# Altium footprint library ZZCDevice.PcbLib: 4 footprints
Each footprint in its own frame and in the unit in brackets; x right, y up, seen from the top. Pads: shape width x height; smd on the part's side, far side on the other; paste and mask are expansions set on the pad; w line width, h text height; cw(c..) or ccw(c..) is an arc to the next point about the centre after c.
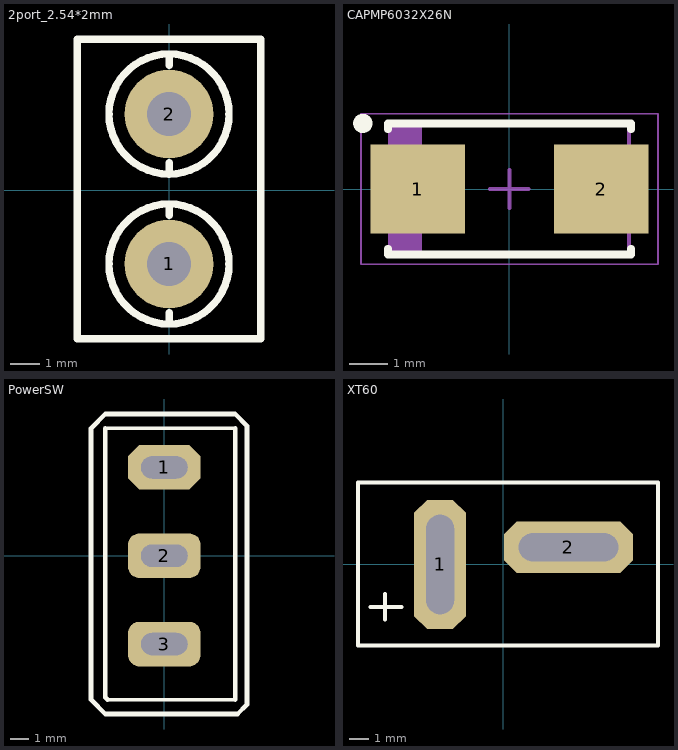
[diagram p0: the footprints below, top view; thin cyan lines are the x and y axes]

## 2port_2.54*2mm [mm] "none"
pads (2):
  round 3 hole 1.5: 1(0,-2.49) 2(0,2.59)
Top Overlay:
  circle w0.254: c0,2.59 r2.032
  circle w0.254: c0,-2.49 r2.032
  lines w0.254: 0,-4.522 0,-4.141 ; 0,-0.839 0,-0.458 ; 0,0.558 0,0.939 ; 0,4.241 0,4.622 ; -3.1,-5.03 -3.1,5.13 3.1,5.13 3.1,-5.03 -3.1,-5.03

## CAPMP6032X26N [mm] "Molded Capacitor, 2-Leads, Body 6.00x3.20mm, IPC Medium Density"
height 2.6
pads (2):
  rect 2.45x2.3 smd: 1(-2.375,0) 2(2.375,0)
Top Overlay:
  circle w0.25: c-3.8,1.7 r0.125
  lines w0.2: -3.15,-1.55 -3.15,-1.7 3.15,-1.7 3.15,-1.55 ; -3.15,1.55 -3.15,1.7 3.15,1.7 3.15,1.55
Mechanical 13:
  rectangle: -3.1,-1.7 -2.266,1.7
  lines w0.1: -3.1,-1.7 -3.1,1.7 3.1,1.7 3.1,-1.7 -3.1,-1.7
Mechanical 15:
  lines w0.05: -3.85,-1.95 -3.85,1.95 3.85,1.95 3.85,-1.95 -3.85,-1.95
  lines w0.1: -0.5,0 0.5,0 ; 0,-0.5 0,0.5
3D body: height 2.6, standoff 0, extent -3.1,-1.7 3.1,1.7

## PowerSW [mm]
height 15
pads (3):
  oct 3.9x2.4 hole 1.2 slot 2.5 at 0 deg: 1(0,4.75)
  rrect50% 3.9x2.4 hole 1.2 slot 2.5 at 0 deg: 2(0,0) 3(0,-4.75)
Top Overlay:
  lines w0.2: -3.175,6.858 3.81,6.858 ; -3.048,-7.747 3.81,-7.725
  lines w0.254: -3.175,6.858 -3.175,-7.62 -3.048,-7.747 ; 3.81,-7.725 3.81,6.858 ; -3.937,-7.747 -3.937,6.858 -3.175,7.62 3.81,7.62 4.445,6.985 4.445,3.302 4.445,-7.62 4.445,-8.001 3.937,-8.509 -3.175,-8.509 -3.937,-7.747

## XT60 [mm]
height 7.62
pads (2):
  oct 2.6x6.5 hole 1.4 slot 5 at 90 deg: 1(-3.175,0)
  oct 6.5x2.6 hole 1.4 slot 5 at 0 deg: 2(3.275,0.869)
Top Overlay:
  lines w0.2: -6.675,-2.147 -5.125,-2.147 ; -5.944,-2.775 -5.944,-1.475 ; -7.3,-4.075 7.775,-4.075 7.775,4.125 -7.3,4.125 -7.3,-4.075